# EAGLE library part TC74HC4020 (library Counter)
TC74HC4020AP/AF 14-Stage Binary Counter TC74HC4020A/4040A は､シリコンゲートCMOS 技術を用いた高 速CMOS RIPPLE CARRY BINARY COUNTER です。CMOS の特 長である低い消費電力で､LSTTL に匹敵する高速動作を実現できま す。 TC74HC4020A は14 段､TC74HC4040A は12 段のリップル·カウ ンタです。 CK 入力の立ち下がりでカウンタは､カウント状態を進めます。ま た､CLR 入力を “H” にするとCK 入力に無関係に全回路がリセット され､全出力とも “L” になります。 これらのIC は､周波数分周､制御回路､タイミング回路などに最適 です。 また､すべての入力には静電破壊から素子を保護するために､ダイ オードが付加されています。 特 長 • 高速動作 : fmax = 73 MHz (標準) (VCC = 5 V) • 低消費電流 : ICC = 4 μA (最大) (Ta = 25°C) • 高雑音余裕度 : VNIH = VNIL = 28% VCC (最小) • 高ファンアウト : LSTTL 10 個を直接駆動可能 • 対称出力インピーダンス : |IOH| = IOL = 4 mA (最小) • バランスのとれた遅延時間 : tpLH −∼ tpHL • 広い動作電圧範囲 : VCC (opr) = 2~6 V • B シリーズCMOS (4020B, 4040B) と同一ピン接続､同一ファンクション
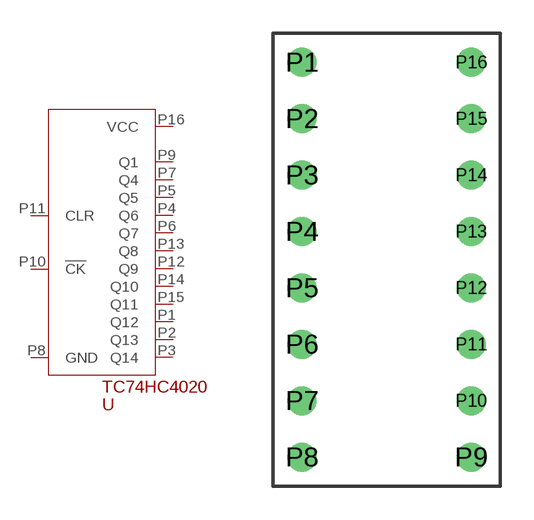
[diagram p0: symbol with the pads of 16DIP; footprint 16DIP]

Designator prefix U

## TC74HC4020AP  [16DIP]
P1  Q12
P2  Q13
P3  Q14
P4  Q6
P5  Q5
P6  Q7
P7  Q4
P8  GND
P9  Q1
P10  !CK
P11  CLR
P12  Q9
P13  Q8
P14  Q10
P15  Q11
P16  VCC

## Footprint 16DIP (pad centres in mm)
16 pin DIP
drill 0.8: P1 -3.81,8.89; P2 -3.81,6.35; P3 -3.81,3.81; P4 -3.81,1.27; P5 -3.81,-1.27; P6 -3.81,-3.81; P7 -3.81,-6.35; P8 -3.81,-8.89; P9 3.81,-8.89; P10 3.81,-6.35; P11 3.81,-3.81; P12 3.81,-1.27; P13 3.81,1.27; P14 3.81,3.81; P15 3.81,6.35; P16 3.81,8.89